# EAGLE library part TM4_SHIELD (library cube-parts)
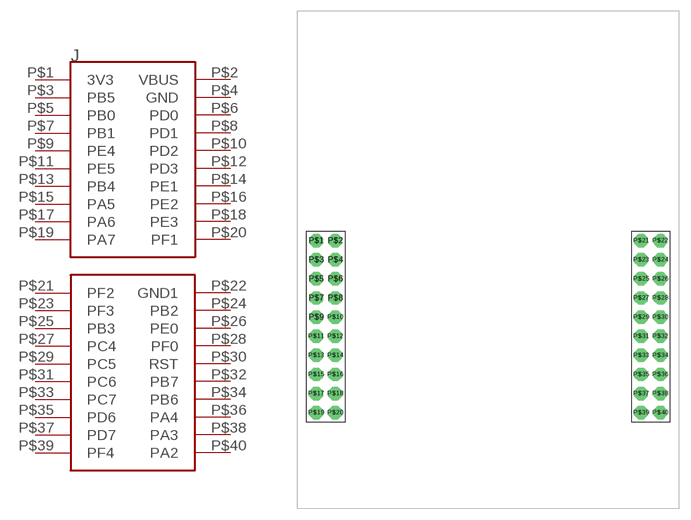
[diagram p1: symbol with the pads of LAUNCHPAD_SHIELD; footprint LAUNCHPAD_SHIELD]

Designator prefix J

## TM4_SHIELD  [LAUNCHPAD_SHIELD]
P$1  3V3  pas
P$2  VBUS  pas
P$3  PB5  pas
P$4  GND  pas
P$5  PB0  pas
P$6  PD0  pas
P$7  PB1  pas
P$8  PD1  pas
P$9  PE4  pas
P$10  PD2  pas
P$11  PE5  pas
P$12  PD3  pas
P$13  PB4  pas
P$14  PE1  pas
P$15  PA5  pas
P$16  PE2  pas
P$17  PA6  pas
P$18  PE3  pas
P$19  PA7  pas
P$20  PF1  pas
P$21  PF2  pas
P$22  GND1  pas
P$23  PF3  pas
P$24  PB2  pas
P$25  PB3  pas
P$26  PE0  pas
P$27  PC4  pas
P$28  PF0  pas
P$29  PC5  pas
P$30  RST  pas
P$31  PC6  pas
P$32  PB7  pas
P$33  PC7  pas
P$34  PB6  pas
P$35  PD6  pas
P$36  PA4  pas
P$37  PD7  pas
P$38  PA3  pas
P$39  PF4  pas
P$40  PA2  pas

## Footprint LAUNCHPAD_SHIELD (pad centres in mm)
drill 1 pad 1.778 octagon: P$1 0,0; P$2 2.54,0; P$3 0,-2.54; P$4 2.54,-2.54; P$5 0,-5.08; P$6 2.54,-5.08; P$7 0,-7.62; P$8 2.54,-7.62; P$9 0,-10.16; P$10 2.54,-10.16; P$11 0,-12.7; P$12 2.54,-12.7; P$13 0,-15.24; P$14 2.54,-15.24; P$15 0,-17.78; P$16 2.54,-17.78; P$17 0,-20.32; P$18 2.54,-20.32; P$19 0,-22.86; P$20 2.54,-22.86; P$21 43.18,0; P$22 45.72,0; P$23 43.18,-2.54; P$24 45.72,-2.54; P$25 43.18,-5.08; P$26 45.72,-5.08; P$27 43.18,-7.62; P$28 45.72,-7.62; P$29 43.18,-10.16; P$30 45.72,-10.16; P$31 43.18,-12.7; P$32 45.72,-12.7; P$33 43.18,-15.24; P$34 45.72,-15.24; P$35 43.18,-17.78; P$36 45.72,-17.78; P$37 43.18,-20.32; P$38 45.72,-20.32; P$39 43.18,-22.86; P$40 45.72,-22.86